# Altium schematic symbol library TPS7A20.SCHLIB: 2 symbols
Pins are listed as number, name and electrical type; pins without a type are passive.

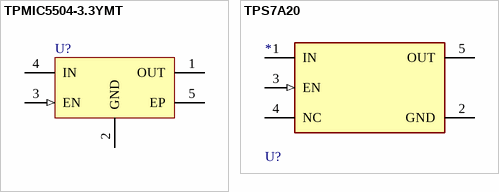
[diagram p0: symbols TPMIC5504-3.3YMT to TPS7A20]

## TPMIC5504-3.3YMT
designator U?
pins: 1 OUT (power), 2 GND (power), 3 EN (in), 4 IN (power), 5 EP (power)

## TPS7A20
designator U?
pins: 1 IN (power), 2 GND (power), 3 EN (in), 4 NC, 5 OUT